# Altium footprint library HUE.PcbLib: 49 footprints (part 3 of 4)
Each footprint in its own frame and in the unit in brackets; x right, y up, seen from the top. Pads: shape width x height; smd on the part's side, far side on the other; paste and mask are expansions set on the pad; w line width, h text height; cw(c..) or ccw(c..) is an arc to the next point about the centre after c.
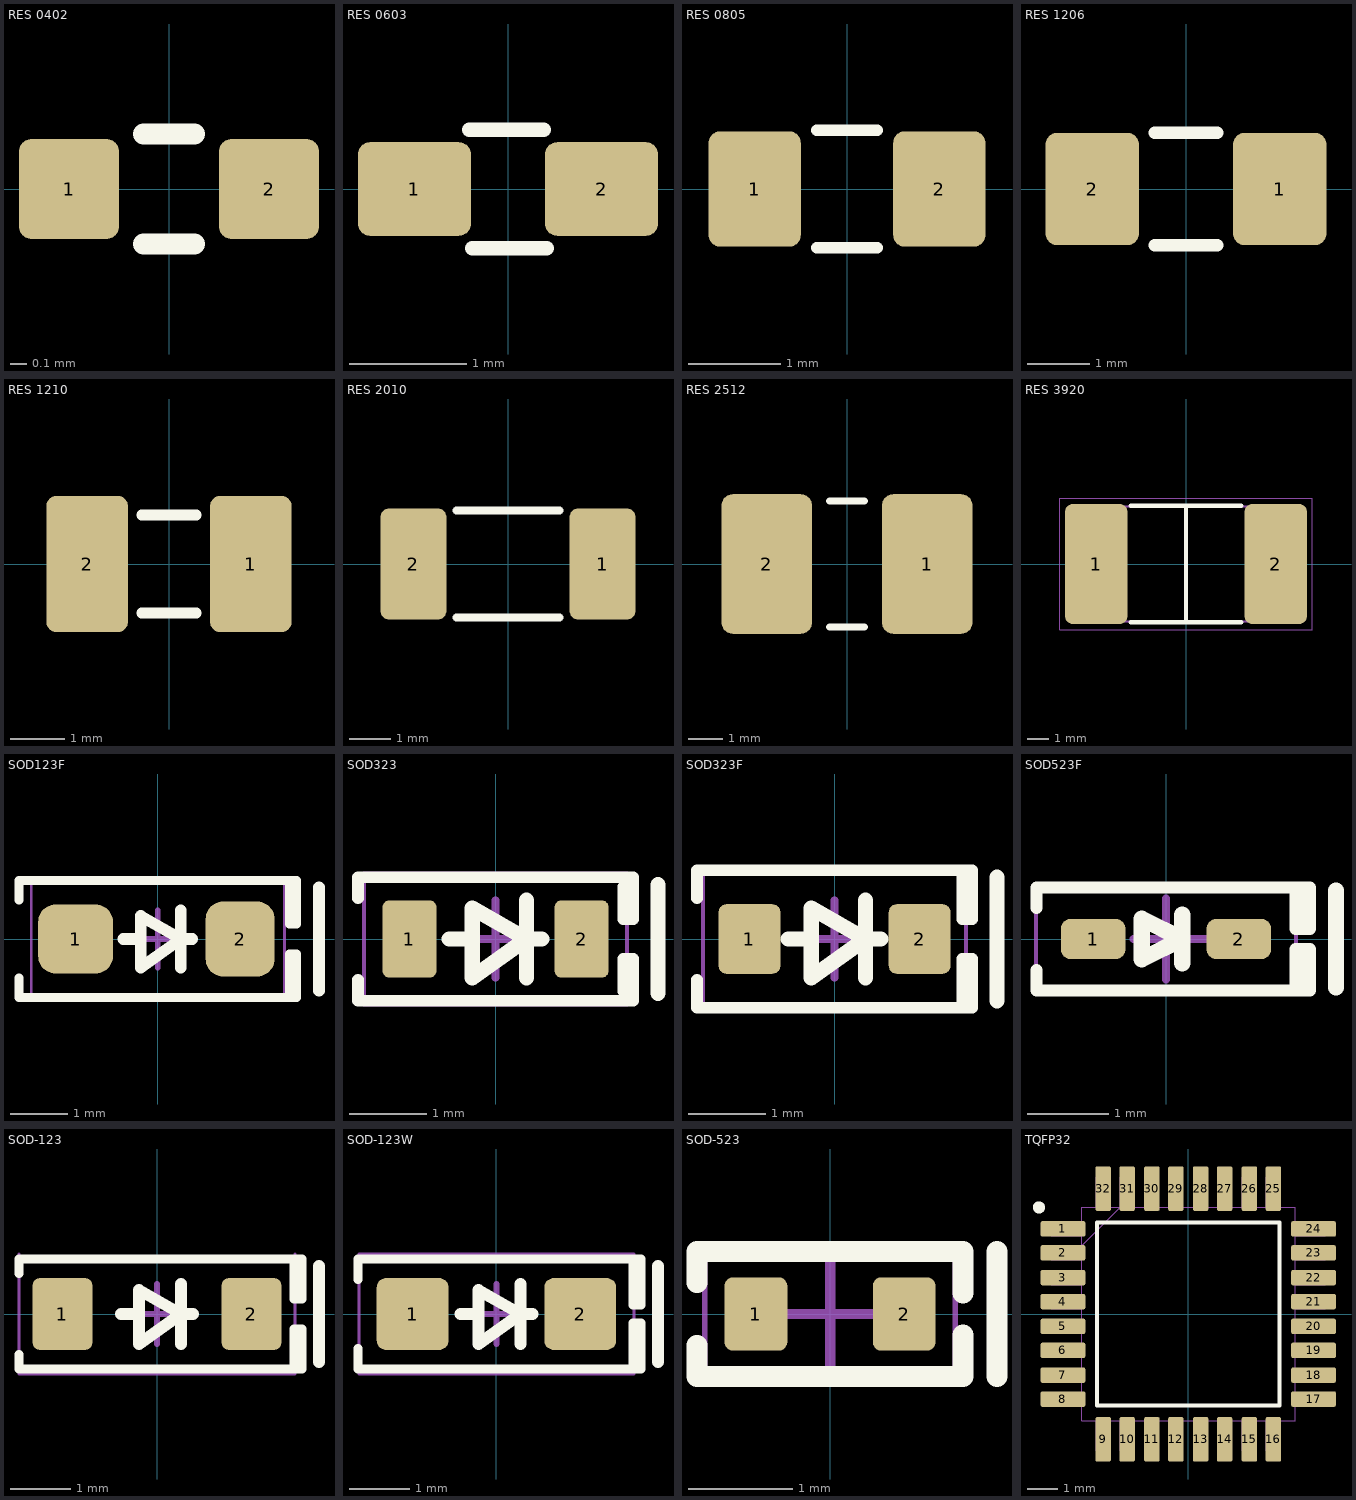
[diagram p2: the footprints below, top view; thin cyan lines are the x and y axes]

## RES 0402 [mm] "Resistor 0402"
pads (2):
  rrect25% 0.6x0.6 smd: 1(-0.6,0) 2(0.6,0)
Top Overlay:
  lines w0.125: -0.152,-0.33 0.152,-0.33 ; -0.152,0.33 0.152,0.33
3D body "Res 0402.STEP": height 0.35, standoff 0, extent -0.5,-0.246 0.5,0.254

## RES 0603 [mm] "RES 0603"
pads (2):
  rrect25% 0.965x0.8 smd: 1(-0.8,0) 2(0.8,0)
Top Overlay:
  lines w0.125: -0.33,0.508 0.305,0.508 ; -0.305,-0.508 0.33,-0.508
3D body "Res 0603.STEP": height 0.45, standoff 0, extent -0.8,-0.4 0.8,0.4

## RES 0805 [mm] "RES 0805"
height 0.5
pads (2):
  rrect25% 1x1.25 smd: 1(-1,0) 2(1,0)
Top Overlay:
  lines w0.125: -0.33,-0.635 0.33,-0.635 ; -0.33,0.635 0.33,0.635
3D body "Res 0805.STEP": height 0.61, standoff -0.01, extent -1.01,-0.635 1.01,0.635

## RES 1206 [mm] "Resistor 1206"
height 0.5
pads (2):
  rrect25% 1.5x1.8 smd: 1(1.5,0) 2(-1.5,0)
Top Overlay:
  lines w0.2: -0.5,-0.9 0.5,-0.9 ; -0.5,0.9 0.5,0.9
3D body "Res 1206.STEP": height 1, standoff 0, extent -1.6,-0.8 1.6,0.8

## RES 1210 [mm] "RES 1210"
height 0.5
pads (2):
  rrect25% 1.5x2.5 smd: 1(1.5,0) 2(-1.5,0)
Top Overlay:
  lines w0.2: -0.5,-0.9 0.5,-0.9 ; -0.5,0.9 0.5,0.9
3D body "Res 1210.STEP": height 0.6, standoff 0, extent -1.6,-1.25 1.6,1.25

## RES 2010 [mm] "RES 2010"
height 0.5
pads (2):
  rrect25% 1.6x2.7 smd: 1(2.3,0) 2(-2.3,0)
Top Overlay:
  lines w0.2: -1.25,-1.3 1.25,-1.3 ; -1.25,1.3 1.25,1.3
3D body "Res 2010.STEP": height 0.61, standoff -0.01, extent -2.51,-1.26 2.51,1.26

## RES 2512 [mm] "RES 2512"
height 0.7
pads (2):
  rrect25% 2.6x4 smd: 1(2.3,0) 2(-2.3,0)
Top Overlay:
  lines w0.2: -0.5,-1.8 0.5,-1.8 ; -0.5,1.8 0.5,1.8
3D body "Res 2512.STEP": height 0.6, standoff 0, extent -3.2,-1.6 3.2,1.6

## RES 3920 [mm] "RES 3920"
pads (2):
  rrect25% 2.85x5.5 smd: 1(-4.1,0) 2(4.1,0)
Top Overlay:
  lines w0.2: -2.525,-2.667 2.525,-2.667 ; -2.525,2.667 2.525,2.667 ; 0,-2.525 0,2.525
Mechanical 15:
  lines w0.1: -5,-2.625 5,-2.625 5,2.625 -5,2.625 -5,-2.625
Mechanical 20:
  lines w0.05: -5.775,-3 5.775,-3 5.775,3 -5.775,3 -5.775,-3
3D body "Res 3920.stp": height 2.6, standoff 0, extent -5,-2.625 5,2.625

## SOD123F [mm] "SODFL, 2-Leads, Body 1.60x3.50mm, IPC Medium Density"
height 1
pads (2):
  rrect50% 1.3x1.2 smd: 1(-1.43,0)
  rrect50% 1.2x1.3 smd: 2(1.43,0)
Top Overlay:
  lines w0.15: -2.413,-0.675 -2.413,-1.016 2.286,-1.016 ; -2.413,0.675 -2.413,1.016 2.286,1.016 ; 2.286,-1.016 2.286,-0.254 2.413,-0.254 2.413,-1.016 2.286,-1.016 ; 2.286,1.016 2.413,1.016 2.413,0.254 2.286,0.254 2.286,1.016
  lines w0.2: -0.6,0 -0.3,0 ; 0.4,-0.5 0.4,0.5 ; 0.6,0 0.4,0 ; 2.8,-0.9 2.8,0.9 ; 0.4,0 -0.3,-0.5 -0.3,0.4 0.4,0
Mechanical 15:
  lines w0.05: -2.2,-1 2.2,-1 2.2,1 -2.2,1 -2.2,-1
  lines w0.1: -0.5,0 0.5,0 ; 0,-0.5 0,0.5
3D body "SOD123F.STEP": height 1.1, standoff 0, extent -1.75,-0.8 1.75,0.8

## SOD323 [mm] "SOD, 2-Leads, Body 1.25x2.50mm, IPC Medium Density"
height 0.8
pads (2):
  rrect25% 0.7x1 smd: 1(-1.112,0) 2(1.112,0)
Top Overlay:
  lines w0.15: -1.778,-0.525 -1.778,-0.8 1.778,-0.8 ; -1.778,0.525 -1.778,0.8 1.778,0.8 ; 1.778,-0.8 1.651,-0.673 1.651,-0.254 1.778,-0.254 1.778,-0.8 ; 1.778,0.8 1.651,0.673 1.651,0.254 1.778,0.254 1.778,0.8
  lines w0.2: -0.6,0 -0.3,0 ; 0.4,-0.5 0.4,0.5 ; 0.6,0 0.4,0 ; 2.1,-0.7 2.1,0.7 ; 0.4,0 -0.3,0.4 -0.3,-0.5 0.4,0
Mechanical 15:
  lines w0.05: -1.7,-0.85 -1.7,0.85 1.7,0.85 1.7,-0.85 -1.7,-0.85
  lines w0.1: -0.5,0 0.5,0 ; 0,-0.5 0,0.5
3D body "SOD-323.step": height 1.05, standoff 0, extent -1.36,-0.625 1.361,0.625

## SOD323F [mm] "SODFL, 2-Leads, Body 1.25x2.50mm, IPC Medium Density"
height 0.8
pads (2):
  rrect25% 0.8x0.9 smd: 1(-1.1,0) 2(1.1,0)
Top Overlay:
  lines w0.15: -1.778,-0.525 -1.778,-0.889 1.778,-0.889 1.778,-0.254 1.651,-0.254 1.651,-0.889 ; -1.778,0.525 -1.778,0.889 1.778,0.889 1.778,0.254 1.651,0.254 1.651,0.889
  lines w0.2: -0.6,0 -0.3,0 ; 0.4,-0.5 0.4,0.5 ; 0.6,0 0.4,0 ; 2.1,-0.8 2.1,0.8 ; 0.4,0 -0.3,0.4 -0.3,-0.5 0.4,0
Mechanical 15:
  lines w0.05: -1.7,-0.85 -1.7,0.85 1.7,0.85 1.7,-0.85 -1.7,-0.85
  lines w0.1: -0.5,0 0.5,0 ; 0,-0.5 0,0.5
3D body "SOD323F.STEP": height 0.8, standoff 0, extent -1.25,-0.625 1.25,0.625

## SOD523F [mm] "SODFL, 2-Leads, Body 0.80x1.60mm, IPC Medium Density"
height 0.77
pads (2):
  rrect50% 0.8x0.5 smd: 1(-0.9,0) 2(0.9,0)
Top Overlay:
  rectangle: 1.6,-0.6 1.8,-0.127
  rectangle: 1.6,0.127 1.778,0.635
  lines w0.15: -1.6,-0.381 -1.6,-0.635 1.651,-0.635 ; -1.6,0.381 -1.6,0.635 1.651,0.635 ; 1.6,-0.635 1.6,-0.127 1.778,-0.127 1.778,-0.635 1.6,-0.635 ; 1.6,0.127 1.778,0.127 1.778,0.635 1.6,0.635 1.6,0.127
  lines w0.2: 0.2,-0.3 0.2,0.3 ; 2.1,-0.6 2.1,0.6 ; -0.3,-0.25 0.2,0 -0.3,0.25 -0.3,-0.1 -0.3,-0.25
Mechanical 15:
  lines w0.05: -1.606,-0.6 -1.606,0.6 1.606,0.6 1.606,-0.6 -1.606,-0.6
  lines w0.1: -0.4,0 0.6,0 ; 0,-0.5 0,0.5
3D body "SOD523F.STEP": height 0.65, standoff 0, extent -0.8,-0.4 0.8,0.4

## SOD-123 [mm] "SOD, 2-Leads, Body 1.55x3.70mm, IPC Medium Density"
height 1.35
pads (2):
  rrect25% 1x1.2 smd: 1(-1.575,0) 2(1.575,0)
Top Overlay:
  lines w0.15: -2.3,-0.675 -2.3,-0.916 2.286,-0.916 ; -2.3,0.675 -2.3,0.916 2.286,0.916 ; 2.286,-0.916 2.286,-0.254 2.413,-0.254 2.413,-0.916 2.286,-0.916 ; 2.286,0.916 2.413,0.916 2.413,0.254 2.286,0.254 2.286,0.916
  lines w0.2: -0.6,0 -0.3,0 ; 0.4,-0.5 0.4,0.5 ; 0.6,0 0.4,0 ; 2.7,-0.8 2.7,0.8 ; 0.4,0 -0.3,-0.5 -0.3,0.4 0.4,0
Mechanical 15:
  lines w0.05: -2.3,0.9 2.3,0.9 ; -2.3,1 -2.3,-1 2.3,-1 2.3,1
  lines w0.1: -0.5,0 0.5,0 ; 0,-0.5 0,0.5
3D body "SOD-123.STEP": height 1.35, standoff 0, extent -1.864,-0.775 1.864,0.775

## SOD-123W [mm] "SODFL, 2-Leads, Body 1.60x3.50mm, IPC Medium Density"
height 1
pads (2):
  rrect25% 1.2x1.2 smd: 1(-1.4,0) 2(1.4,0)
Top Overlay:
  lines w0.15: -2.313,-0.575 -2.313,-0.916 2.286,-0.916 ; -2.313,0.575 -2.313,0.916 2.286,0.916 ; 2.286,-0.916 2.413,-0.916 2.413,-0.154 2.286,-0.154 2.286,-0.916 ; 2.286,0.916 2.286,0.154 2.413,0.154 2.413,0.916 2.286,0.916
  lines w0.2: -0.6,0 -0.3,0 ; 0.4,-0.5 0.4,0.5 ; 0.6,0 0.4,0 ; 2.7,-0.8 2.7,0.8 ; 0.4,0 -0.3,0.4 -0.3,-0.5 0.4,0
Mechanical 15:
  lines w0.05: -2.3,-1 -2.3,1 2.3,1 2.3,-1 -2.3,-1
  lines w0.1: -0.5,0 0.5,0 ; 0,-0.5 0,0.5
3D body "SOD-123W.step": height 0.95, standoff -0.15, extent -1.75,-0.87 1.75,0.87

## SOD-523 [mm] "Molded Diode, 2-Leads, Body 1.60x0.80mm, IPC Medium Density"
height 0.77
pads (2):
  rrect25% 0.6x0.7 smd: 1(-0.71,0) 2(0.71,0)
Top Overlay:
  lines w0.2: -1.275,-0.3 -1.275,-0.6 1.275,-0.6 1.275,-0.2 ; -1.275,0.3 -1.275,0.6 1.275,0.6 1.275,0.2 ; 1.6,-0.6 1.6,0.6
Mechanical 15:
  lines w0.05: -1.2,-0.6 -1.2,0.6 1.2,0.6 1.2,-0.6 -1.2,-0.6
  lines w0.1: -0.5,0 0.5,0 ; 0,-0.5 0,0.5
3D body "SOD-523.step": height 0.82, standoff -0.03, extent -0.8,-0.4 0.8,0.4

## TQFP32 [mil]
pads (32):
  rrect25% 58x20 smd: 1(-162,110) 2(-162,79) 3(-162,47) 4(-162,16) 5(-162,-16) 6(-162,-47) 7(-162,-79) 8(-162,-110) 17(162,-110) 18(162,-79) 19(162,-47) 20(162,-16) 21(162,16) 22(162,47) 23(162,79) 24(162,110)
  rrect25% 20x58 smd: 9(-110,-162) 10(-79,-162) 11(-47,-162) 12(-16,-162) 13(16,-162) 14(47,-162) 15(79,-162) 16(110,-162) 25(110,162) 26(79,162) 27(47,162) 28(16,162) 29(-16,162) 30(-47,162) 31(-79,162) 32(-110,162)
Top Overlay:
  circle w7.87: c-192.91,137.8 r3.94
  lines w5: -118.11,-118.11 -118.11,118.11 118.11,118.11 118.11,-118.11 -118.11,-118.11
Mechanical 13:
  drawing of 169 lines, arcs and shapes, not listed
3D body "ATMEGA88A-AU.STEP": height 47.24, standoff 0, extent -177.16,-177.16 177.17,177.17